# Altium schematic symbol library PESD15VL2BT.SchLib: 1 symbol
Pins are listed as number, name and electrical type; pins without a type are passive.

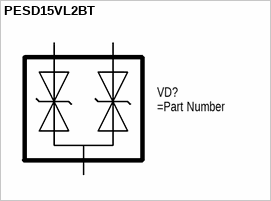
[diagram p0: symbol PESD15VL2BT]

## PESD15VL2BT
designator VD?
pins: 1, 2, 3